# EAGLE library part ALZ-FORM-C (library relay)
Panasonic LZ (ALZ) Series Form-C
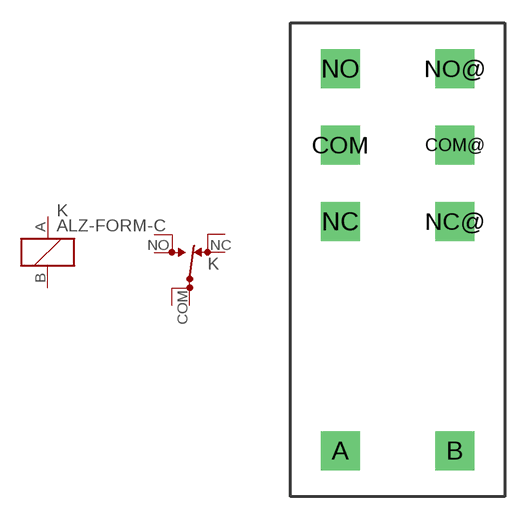
[diagram p54: symbol with the pads of ALZ-FORM-C; footprint ALZ-FORM-C]

Designator prefix K; gates G$1=K G$2=UD

## ALZ-FORM-C  [ALZ-FORM-C]
A  G$1:1  pas
B  G$1:2  pas
COM  G$2:COM  pas
COM@  G$2:COM  pas
NC  G$2:NC  pas
NC@  G$2:NC  pas
NO  G$2:NO  pas
NO@  G$2:NO  pas

## Footprint ALZ-FORM-C (pad centres in mm)
Panasonic LZ (ALZ) Series Form-C
drill 1.422 pad 2.54 square: A -3.75,0; B 3.75,0; COM -3.75,20; COM@ 3.75,20; NC -3.75,15; NC@ 3.75,15; NO -3.75,25; NO@ 3.75,25